# Altium schematic symbol library HT7333.SchLib: 1 symbol
Pins are listed as number, name and electrical type; pins without a type are passive.

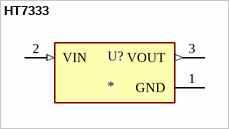
[diagram p0: symbol HT7333]

## HT7333
designator U?
Three-terminal, low power, high voltage regulator implemented in CMOS technology; MF: Holtek Semiconductor; MP: HT7333; SnapEDA_Link: https://www.snapeda.com/parts/HT7333/Holtek/view-part/?ref=snap; Package: None; Value: *; Check_prices: https://www.snapeda.com/parts/HT7333/Holtek/view-part/?ref=eda
footprint IC_HT7333
pins: 1 GND (power), 2 VIN (in), 3 VOUT (out)